# EAGLE library part M916 (library dec-r)
Simple 36 pin connector/wire cable
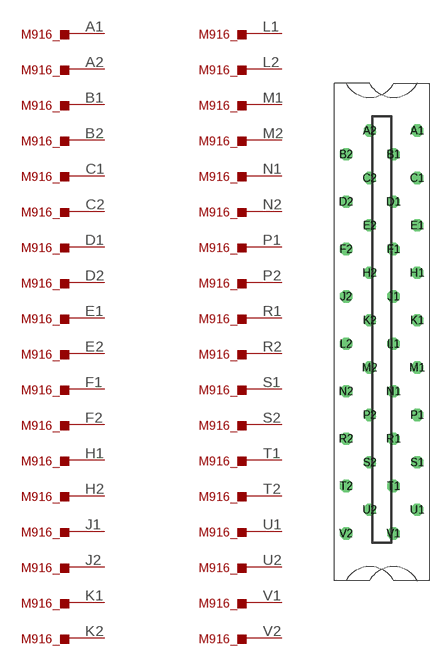
[diagram p27: symbol with the pads of H807; footprint H807]

Designator prefix M916_; gates A1=PIN A2=PIN B1=PIN B2=PIN C1=PIN C2=PIN D1=PIN D2=PIN E1=PIN E2=PIN F1=PIN F2=PIN H1=PIN H2=PIN J1=PIN J2=PIN K1=PIN K2=PIN L1=PIN L2=PIN M1=PIN M2=PIN N1=PIN N2=PIN P1=PIN P2=PIN R1=PIN R2=PIN S1=PIN S2=PIN T1=PIN T2=PIN U1=PIN U2=PIN V1=PIN V2=PIN

## M916  [H807]
A1  A1:P$2
A2  A2:P$2
B1  B1:P$2
B2  B2:P$2
C1  C1:P$2
C2  C2:P$2
D1  D1:P$2
D2  D2:P$2
E1  E1:P$2
E2  E2:P$2
F1  F1:P$2
F2  F2:P$2
H1  H1:P$2
H2  H2:P$2
J1  J1:P$2
J2  J2:P$2
K1  K1:P$2
K2  K2:P$2
L1  L1:P$2
L2  L2:P$2
M1  M1:P$2
M2  M2:P$2
N1  N1:P$2
N2  N2:P$2
P1  P1:P$2
P2  P2:P$2
R1  R1:P$2
R2  R2:P$2
S1  S1:P$2
S2  S2:P$2
T1  T1:P$2
T2  T2:P$2
U1  U1:P$2
U2  U2:P$2
V1  V1:P$2
V2  V2:P$2

## Footprint H807 (pad centres in mm)
One-wide female edge connector
drill 1.092 octagon: A1 4.763,28.575; A2 -1.587,28.575; B1 1.587,25.4; B2 -4.763,25.4; C1 4.763,22.225; C2 -1.587,22.225; D1 1.587,19.05; D2 -4.763,19.05; E1 4.763,15.875; E2 -1.587,15.875; F1 1.587,12.7; F2 -4.763,12.7; H1 4.763,9.525; H2 -1.587,9.525; J1 1.587,6.35; J2 -4.763,6.35; K1 4.763,3.175; K2 -1.587,3.175; L1 1.587,0; L2 -4.763,0; M1 4.763,-3.175; M2 -1.587,-3.175; N1 1.587,-6.35; N2 -4.763,-6.35; P1 4.763,-9.525; P2 -1.587,-9.525; R1 1.587,-12.7; R2 -4.763,-12.7; S1 4.763,-15.875; S2 -1.587,-15.875; T1 1.587,-19.05; T2 -4.763,-19.05; U1 4.763,-22.225; U2 -1.587,-22.225; V1 1.587,-25.4; V2 -4.763,-25.4